# Altium schematic symbol library SKRRABE010.SchLib: 1 symbol
Pins are listed as number, name and electrical type; pins without a type are passive.

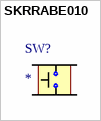
[diagram p0: symbol SKRRABE010]

## SKRRABE010
designator SW?
pins: 1, 2, 3, 4